# EAGLE library part TC4424 (library ctrl)
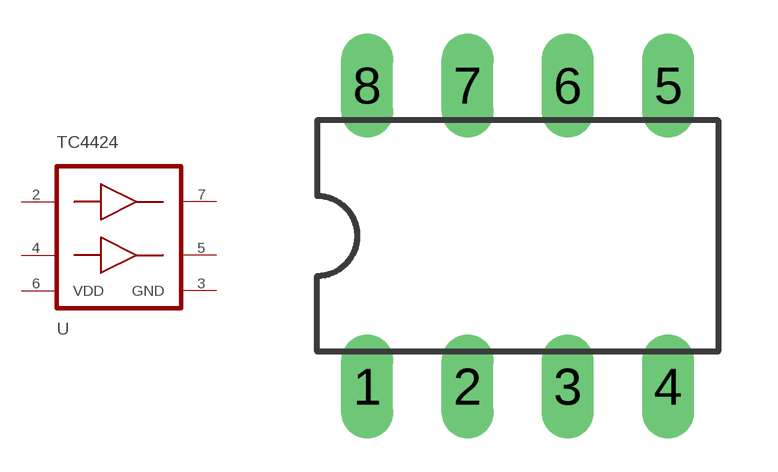
[diagram p0: symbol with the pads of DIL08; footprint DIL08]

Designator prefix U

## TC4424P  [DIL08]
2  IN_A  in
3  GND  pwr
4  IN_B  in
5  OUT_B  out
6  VDD  pwr
7  OUT_A  out

## Footprint DIL08 (pad centres in mm)
drill 0.813 long: 1 -3.81,-3.81; 2 -1.27,-3.81; 3 1.27,-3.81; 4 3.81,-3.81; 5 3.81,3.81; 6 1.27,3.81; 7 -1.27,3.81; 8 -3.81,3.81